# Altium footprint library CONN-RJHSE5E80.PcbLib: 1 footprints
Each footprint in its own frame and in the unit in brackets; x right, y up, seen from the top. Pads: shape width x height; smd on the part's side, far side on the other; paste and mask are expansions set on the pad; w line width, h text height; cw(c..) or ccw(c..) is an arc to the next point about the centre after c.
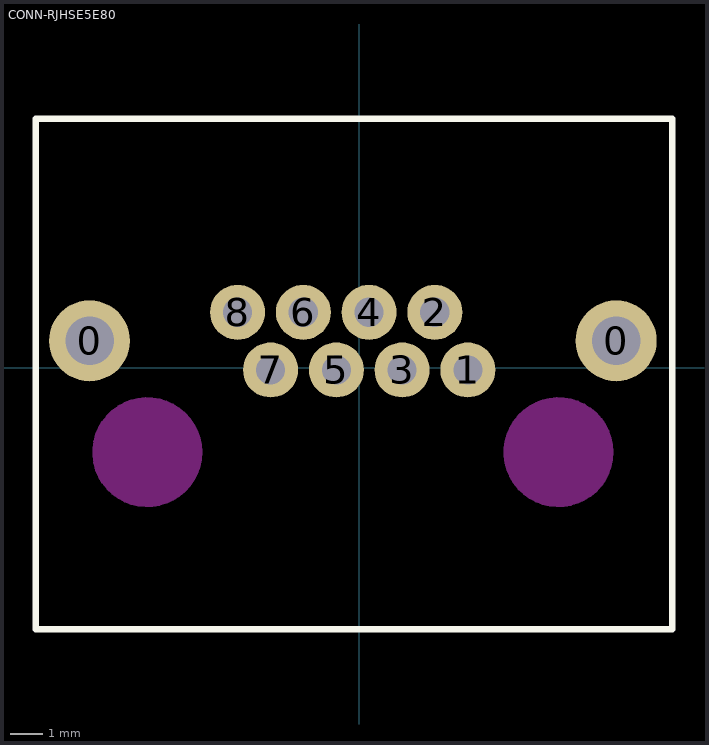
[diagram p0: the footprint, top view; thin cyan lines are the x and y axes]

## CONN-RJHSE5E80 [mm]
pads (10):
  round 2.5 hole 1.5: 0(-8.33,0.825) 0(7.93,0.825)
  round 1.7 hole 0.9: 1(3.35,-0.075) 2(2.33,1.705) 3(1.32,-0.075) 4(0.3,1.705) 5(-0.71,-0.075) 6(-1.73,1.705) 7(-2.74,-0.075) 8(-3.76,1.705)
Top Overlay:
  lines w0.2: -9.99,-8.075 -9.99,7.675 9.66,7.675 9.66,-8.075 -9.99,-8.075
Keep-Out Layer:
  board cut-out: -6.539,-4.269 -6.702,-4.269 -7.021,-4.205 -7.321,-4.081 -7.591,-3.9 -7.821,-3.67 -8.002,-3.4 -8.126,-3.1 -8.189,-2.781 -8.189,-2.619 -8.189,-2.456 -8.126,-2.137 -8.002,-1.837 -7.821,-1.567 -7.591,-1.337 -7.321,-1.156 -7.021,-1.032 -6.702,-0.969 -6.539,-0.969 -6.377,-0.969 -6.058,-1.032 -5.758,-1.156 -5.488,-1.337 -5.258,-1.567 -5.077,-1.837 -4.953,-2.137 -4.889,-2.456 -4.889,-2.619 -4.889,-2.781 -4.953,-3.1 -5.077,-3.4 -5.258,-3.67 -5.488,-3.9 -5.758,-4.081 -6.058,-4.205 -6.377,-4.269
  board cut-out: 6.15,-4.265 5.987,-4.265 5.669,-4.202 5.368,-4.077 5.098,-3.897 4.868,-3.667 4.688,-3.397 4.563,-3.096 4.5,-2.778 4.5,-2.615 4.5,-2.452 4.563,-2.134 4.688,-1.833 4.868,-1.563 5.098,-1.333 5.368,-1.153 5.669,-1.028 5.987,-0.965 6.15,-0.965 6.313,-0.965 6.631,-1.028 6.932,-1.153 7.202,-1.333 7.432,-1.563 7.612,-1.833 7.737,-2.134 7.8,-2.452 7.8,-2.615 7.8,-2.778 7.737,-3.096 7.612,-3.397 7.432,-3.667 7.202,-3.897 6.932,-4.077 6.631,-4.202 6.313,-4.265
Keep-Out Layer:
  circle w0.1: c6.15,-2.615 r1.65
  circle w0.1: c-6.55,-2.615 r1.65
Top Assembly:
  lines w0.1: -9.99,-8.075 -9.99,7.675 9.66,7.675 9.66,-8.075 -9.99,-8.075
  text "'.Designator'" at -3.405,-3.978 h0.7
3D body "M-RJHSE-XE80-REVT1.STEP": height 13.39, standoff -3.86, extent -8.616,-8.12 8.214,7.63